# EAGLE library part AS-ITM-00055 (library tinycircuits)
WIZnet W5200
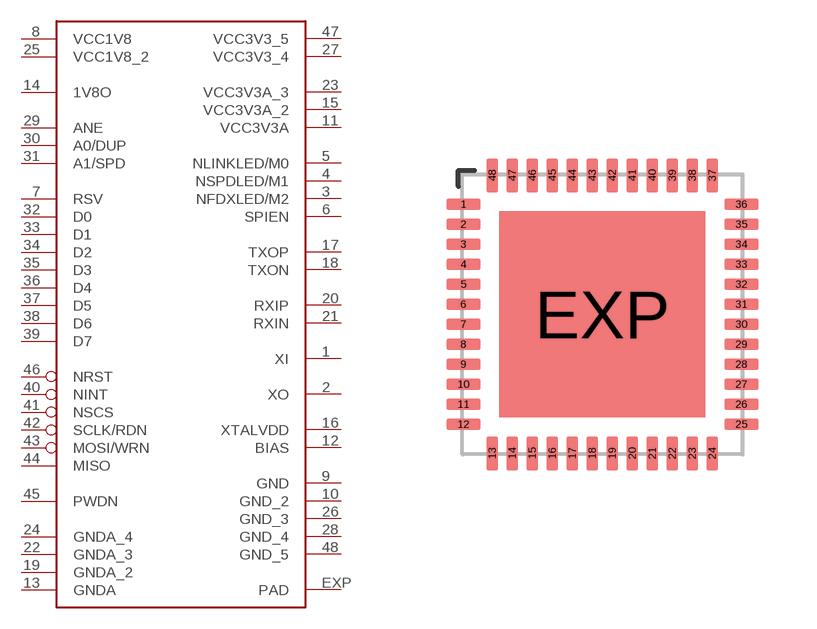
[diagram p16: symbol with the pads of QFN48; footprint QFN48]

Designator prefix U

## AS-ITM-00055QFN (PARTNO: AS-ITM-00055; VALUE: W5200)  [QFN48]
1  XI
2  XO
3  NFDXLED/M2
4  NSPDLED/M1
5  NLINKLED/M0
6  SPIEN
7  RSV
8  VCC1V8
9  GND
10  GND_2
11  VCC3V3A
12  BIAS
13  GNDA
14  1V8O
15  VCC3V3A_2
16  XTALVDD
17  TXOP
18  TXON
19  GNDA_2
20  RXIP
21  RXIN
22  GNDA_3
23  VCC3V3A_3
24  GNDA_4
25  VCC1V8_2
26  GND_3
27  VCC3V3_4
28  GND_4
29  ANE
30  A0/DUP
31  A1/SPD
32  D0
33  D1
34  D2
35  D3
36  D4
37  D5
38  D6
39  D7
40  NINT
41  NSCS
42  SCLK/RDN
43  MOSI/WRN
44  MISO
45  PWDN
46  NRST
47  VCC3V3_5
48  GND_5
EXP  PAD

## Footprint QFN48 (pad centres in mm)
48-pin QFN 7 x 7 mm LF48 48 Quad Flat Package No Leads Source: http://v4.cypress.com/cfuploads/img/products/cywusb6934.pdf
smd 0.85 x 0.28: 1 -3.475,2.75; 2 -3.475,2.25; 3 -3.475,1.75; 4 -3.475,1.25; 5 -3.475,0.75; 6 -3.475,0.25; 7 -3.475,-0.25; 8 -3.475,-0.75; 9 -3.475,-1.25; 10 -3.475,-1.75; 11 -3.475,-2.25; 12 -3.475,-2.75; 25 3.475,-2.75; 26 3.475,-2.25; 27 3.475,-1.75; 28 3.475,-1.25; 29 3.475,-0.75; 30 3.475,-0.25; 31 3.475,0.25; 32 3.475,0.75; 33 3.475,1.25; 34 3.475,1.75; 35 3.475,2.25; 36 3.475,2.75
smd 0.28 x 0.85: 13 -2.75,-3.475; 14 -2.25,-3.475; 15 -1.75,-3.475; 16 -1.25,-3.475; 17 -0.75,-3.475; 18 -0.25,-3.475; 19 0.25,-3.475; 20 0.75,-3.475; 21 1.25,-3.475; 22 1.75,-3.475; 23 2.25,-3.475; 24 2.75,-3.475; 37 2.75,3.475; 38 2.25,3.475; 39 1.75,3.475; 40 1.25,3.475; 41 0.75,3.475; 42 0.25,3.475; 43 -0.25,3.475; 44 -0.75,3.475; 45 -1.25,3.475; 46 -1.75,3.475; 47 -2.25,3.475; 48 -2.75,3.475
smd 5.15 x 5.15: EXP 0,0